# Altium footprint library RESISTOR_2512.PcbLib: 1 footprints
Each footprint in its own frame and in the unit in brackets; x right, y up, seen from the top. Pads: shape width x height; smd on the part's side, far side on the other; paste and mask are expansions set on the pad; w line width, h text height; cw(c..) or ccw(c..) is an arc to the next point about the centre after c.
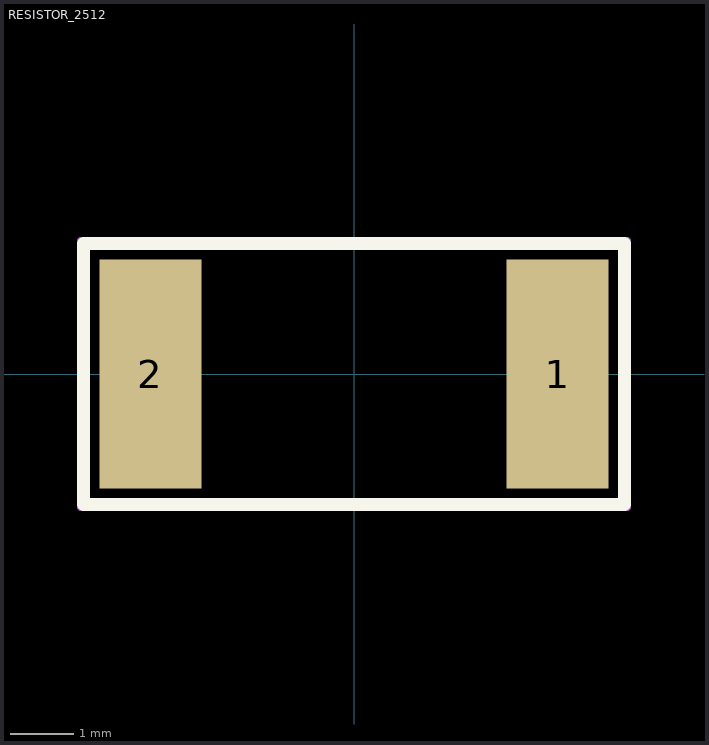
[diagram p0: the footprint, top view; thin cyan lines are the x and y axes]

## RESISTOR_2512 [mm]
pads (2):
  rect 1.6x3.6 smd: 1(3.2,0) 2(-3.2,0)
Top Overlay:
  lines w0.2: -4.25,-2.05 4.25,-2.05 4.25,2.05 -4.25,2.05 -4.25,-2.05
Top Courtyard:
  lines w0.1: -4.3,-2.1 4.3,-2.1 4.3,2.1 -4.3,2.1 -4.3,-2.1
3D body "WRIS-KSKE_2512.stp": height 0.6, standoff 0, extent -3.15,-1.6 3.15,1.6